# EAGLE library part DRV8432DKDR (library drv84321)
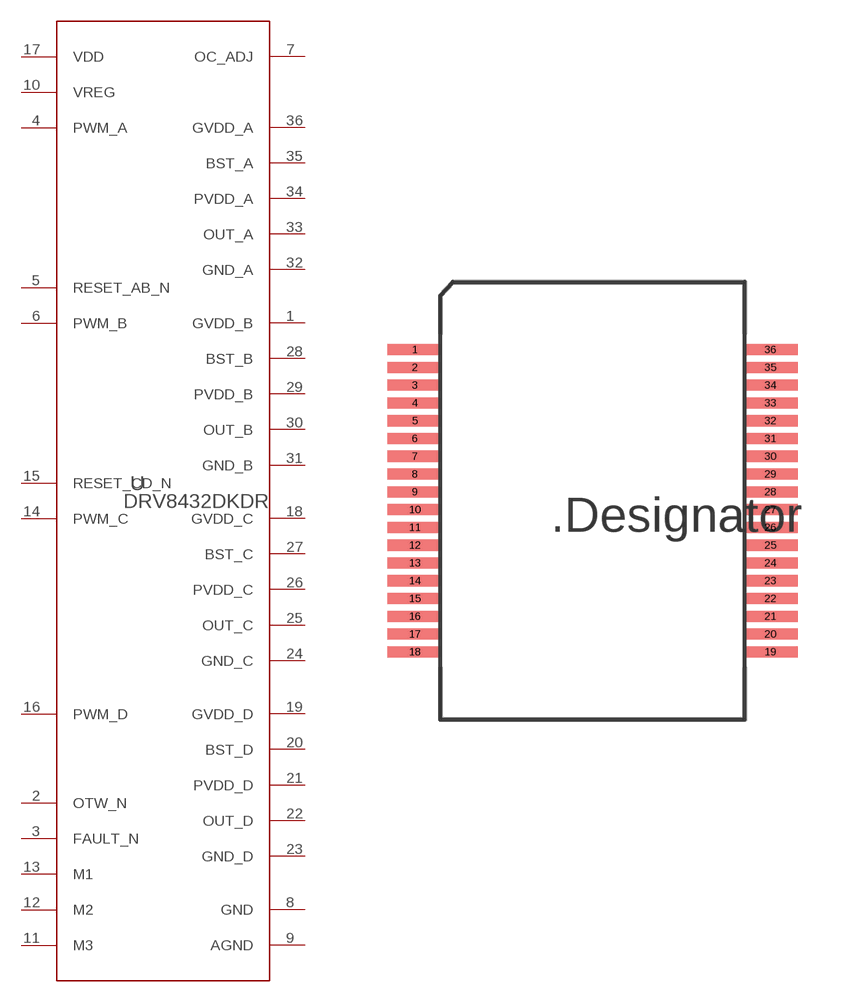
[diagram p0: symbol with the pads of DKD0036A; footprint DKD0036A]

Designator prefix U

## DRV8432DKDR (ALTERNATEPARTNUMBER: DRV8432DKD; APPLICATION_BUILDNUMBER: *; COMPTYPE: IC; MANUFACTURER: Texas Instruments; MOUNTTYPE: SMT; PACKAGEREFERENCE: DKD0036A; PARTNUMBER: DRV8432DKDR; PIN_COUNT: 36; REFDES: RefDes; ROHS: Y; TYPE: TYPE; VALUE: Value)  [DKD0036A]
1  GVDD_B  pwr
2  OTW_N  oc
3  FAULT_N  oc
4  PWM_A  in
5  RESET_AB_N  in
6  PWM_B  in
7  OC_ADJ  pas
8  GND  pwr
9  AGND  pwr
10  VREG  pwr
11  M3  pwr
12  M2  in
13  M1  in
14  PWM_C  in
15  RESET_CD_N  in
16  PWM_D  in
17  VDD  pwr
18  GVDD_C  pwr
19  GVDD_D  pwr
20  BST_D  pwr
21  PVDD_D  pwr
22  OUT_D  hiz
23  GND_D  pwr
24  GND_C  pwr
25  OUT_C  hiz
26  PVDD_C  pwr
27  BST_C  pwr
28  BST_B  pwr
29  PVDD_B  pwr
30  OUT_B  hiz
31  GND_B  pwr
32  GND_A  pwr
33  OUT_A  hiz
34  PVDD_A  pwr
35  BST_A  pwr
36  GVDD_A  pwr

## Footprint DKD0036A (pad centres in mm)
smd 2.007 x 0.406: 1 -6.5,5.525; 2 -6.5,4.875; 3 -6.5,4.225; 4 -6.5,3.575; 5 -6.5,2.925; 6 -6.5,2.275; 7 -6.5,1.625; 8 -6.5,0.975; 9 -6.5,0.325; 10 -6.5,-0.325; 11 -6.5,-0.975; 12 -6.5,-1.625; 13 -6.5,-2.275; 14 -6.5,-2.925; 15 -6.5,-3.575; 16 -6.5,-4.225; 17 -6.5,-4.875; 18 -6.5,-5.525; 19 6.5,-5.525; 20 6.5,-4.875; 21 6.5,-4.225; 22 6.5,-3.575; 23 6.5,-2.925; 24 6.5,-2.275; 25 6.5,-1.625; 26 6.5,-0.975; 27 6.5,-0.325; 28 6.5,0.325; 29 6.5,0.975; 30 6.5,1.625; 31 6.5,2.275; 32 6.5,2.925; 33 6.5,3.575; 34 6.5,4.225; 35 6.5,4.875; 36 6.5,5.525